# Altium footprint library GY-521.PcbLib: 1 footprints
Each footprint in its own frame and in the unit in brackets; x right, y up, seen from the top. Pads: shape width x height; smd on the part's side, far side on the other; paste and mask are expansions set on the pad; w line width, h text height; cw(c..) or ccw(c..) is an arc to the next point about the centre after c.
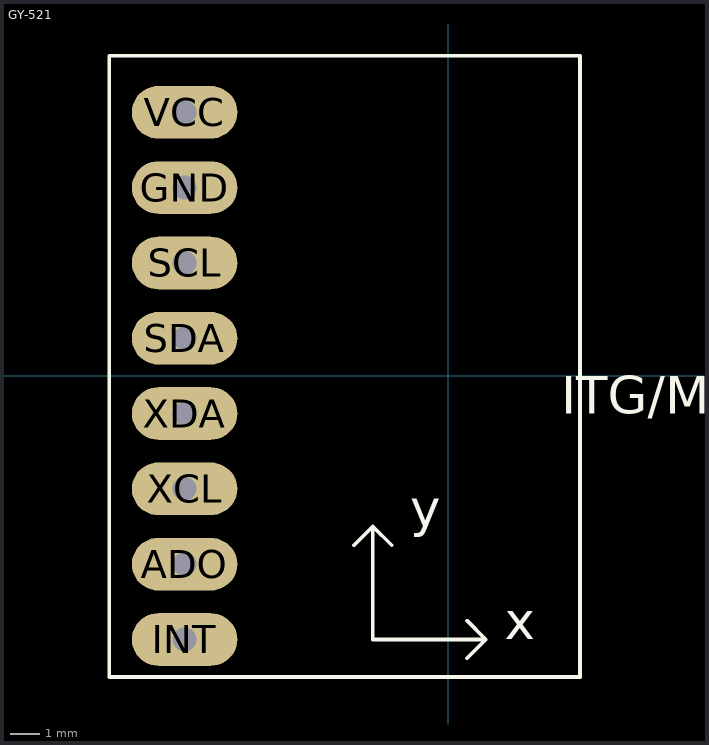
[diagram p0: the footprint, top view; thin cyan lines are the x and y axes]

## GY-521 [mil]
pads (8):
  oval 140x70 hole 31.5: ADO(-350,-250) GND(-350,250) INT(-350,-350) SCL(-350,150) SDA(-350,50) VCC(-350,350) XCL(-350,-150) XDA(-350,-50)
Top Overlay:
  lines w5: -125,-225 -100,-200 ; -75,-225 -100,-200 ; 25,-375 50,-350 ; 25,-325 50,-350 ; -100,-200 -100,-350 50,-350 ; -450,-400 175,-400 175,425 -450,425 -450,-400
  text "x" at 75,-350 h50
  text "y" at -50,-200 h50
  text "ITG/MPU" at 150,-50 h50